# EAGLE library part MICRO-USB-AB-SCHIELD (library molex)
MICRO USB TYPE B, RECEPTACLE, BOTTOM MOUNT ASS'Y Source: http://www.farnell.com/datasheets/1681853.pdf
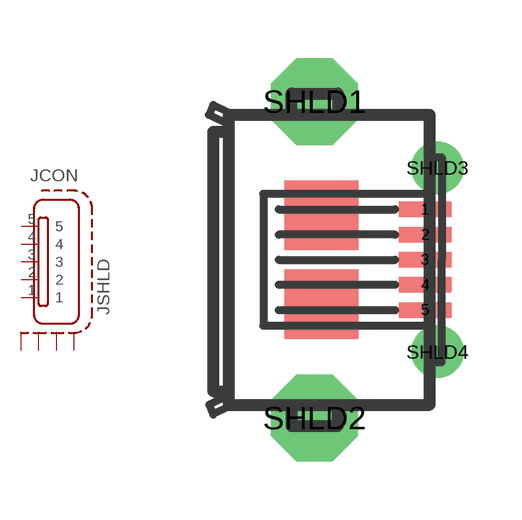
[diagram p0: symbol with the pads of 47589-0001; footprint 47589-0001]

Designator prefix J; gates CON=MICRO-USB-AB SHLD=SHIELD_4

## MICRO-USB-AB-SCHIELD  [47589-0001]
1  CON:1  pas
2  CON:2  pas
3  CON:3  pas
4  CON:4  pas
5  CON:5  pas
SHLD1  SHLD:S1  pas
SHLD2  SHLD:S2  pas
SHLD3  SHLD:S3  pas
SHLD4  SHLD:S4  pas

## Footprint 47589-0001 (pad centres in mm)
smd 1.35 x 0.4: 1 2.68,1.3; 2 2.68,0.65; 3 2.68,0; 4 2.68,-0.65; 5 2.68,-1.3
drill 1.5 pad 1.9 octagon: SHLD1 -0.18,4.09; SHLD2 -0.18,-4.09
drill 0.85 pad 1.1: SHLD3 3,2.38; SHLD4 3,-2.38